# EAGLE library part FLAT-FLEX-CONNECTOR-RA-12POS (library FlashPCB_Connectors)
FLAT-FLEX-CONNECTOR-RA-12POS - Flat Flex Connector 12 position Right Angle Technical Specifications: Number of Positions: 12 Contact: Top or Bottom Mount: Right Angle
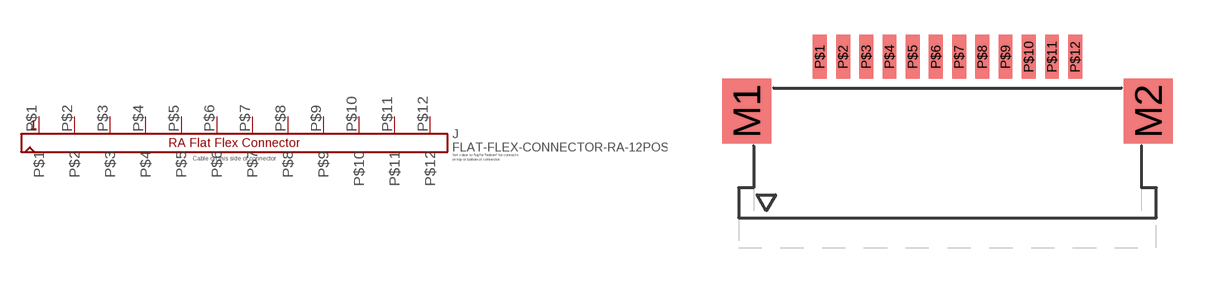
[diagram p110: symbol with the pads of FLAT-FLEX-CONNECTOR-MOLEX-522XX-RA-12POS; footprint FLAT-FLEX-CONNECTOR-MOLEX-522XX-RA-12POS]

Designator prefix J

## FLAT-FLEX-CONNECTOR-RA-12POS1MM-PITCH  [FLAT-FLEX-CONNECTOR-MOLEX-522XX-RA-12POS]
P$1  P$1
P$2  P$2
P$3  P$3
P$4  P$4
P$5  P$5
P$6  P$6
P$7  P$7
P$8  P$8
P$9  P$9
P$10  P$10
P$11  P$11
P$12  P$12

## Footprint FLAT-FLEX-CONNECTOR-MOLEX-522XX-RA-12POS (pad centres in mm)
smd 2.1 x 2.8: M1 -8.65,-1.4; M2 8.65,-1.4
smd 0.6 x 1.9: P$1 -5.5,0.95; P$2 -4.5,0.95; P$3 -3.5,0.95; P$4 -2.5,0.95; P$5 -1.5,0.95; P$6 -0.5,0.95; P$7 0.5,0.95; P$8 1.5,0.95; P$9 2.5,0.95; P$10 3.5,0.95; P$11 4.5,0.95; P$12 5.5,0.95